# EAGLE library part HEADER-11P (library Deegou_Connector)
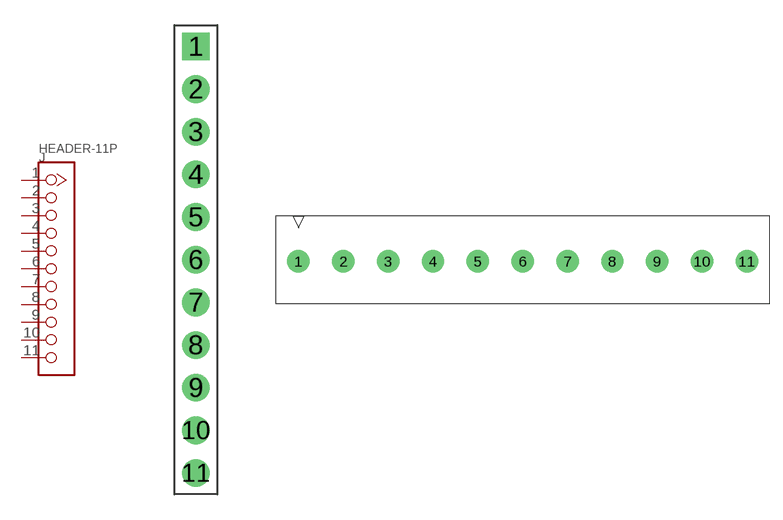
[diagram p33: symbol with the pads of 11P-2.54; footprints 11P-2.54, 11P-SCREW-5.08]

Designator prefix J

## HEADER-11P-2.54  [11P-2.54]
1  1
2  2
3  3
4  4
5  5
6  6
7  7
8  8
9  9
10  10
11  11

## HEADER-11P  [11P-SCREW-5.08]
Pads as for 11P-2.54

## Footprint 11P-2.54 (pad centres in mm)
drill 0.889 pad 1.651 square: 1 0,12.7
drill 0.889 pad 1.651: 2 0,10.16; 3 0,7.62; 4 0,5.08; 5 0,2.54; 6 0,0; 7 0,-2.54; 8 0,-5.08; 9 0,-7.62; 10 0,-10.16; 11 0,-12.7

## Footprint 11P-SCREW-5.08 (pad centres in mm)
drill 1.4 pad 2.54: 1 -25.4,0; 2 -20.32,0; 3 -15.24,0; 4 -10.16,0; 5 -5.08,0; 6 0,0; 7 5.08,0; 8 10.16,0; 9 15.24,0; 10 20.32,0; 11 25.4,0